# Altium schematic symbol library BAT60A.Schlib: 1 symbol
Pins are listed as number, name and electrical type; pins without a type are passive.

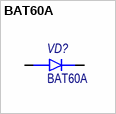
[diagram p0: symbol BAT60A]

## BAT60A
designator VD?
Schottky diode; Потребление, Вт: 0,001; Наименование: BAT60A; Назначение: Schottky diode
footprint SOD-323 (SC-76 plastic surface mounted package; 2 leads)
pins: 1 Cathode, 2 Anode